# Altium schematic symbol library Trans_ETD59.SchLib: 1 symbol
Pins are listed as number, name and electrical type; pins without a type are passive.

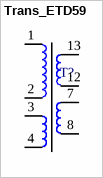
[diagram p0: symbol Trans_ETD59]

## Trans_ETD59
designator T?, comment ETD29  (value not drawn)
footprint TRANS_ETD_29
pins: 1, 2, 3, 4, 7, 8, 12 6, 13 5